# Altium footprint library PurchasedModules.PcbLib: 4 footprints
Each footprint in its own frame and in the unit in brackets; x right, y up, seen from the top. Pads: shape width x height; smd on the part's side, far side on the other; paste and mask are expansions set on the pad; w line width, h text height; cw(c..) or ccw(c..) is an arc to the next point about the centre after c.
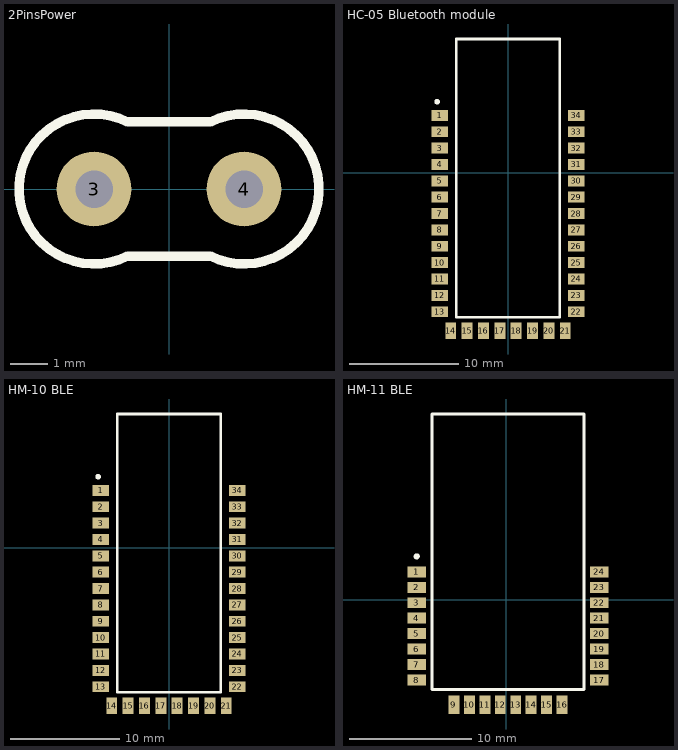
[diagram p0: the footprints below, top view; thin cyan lines are the x and y axes]

## 2PinsPower [mm] "AC-DC 220V-5V converter 0.6A"
pads (2):
  round 2 hole 1: 3(-2,0) 4(2,0)
Top Overlay:
  lines w0.254: -1.106,-1.789 cw(c-2,0) -1.106,1.789 1.106,1.789 cw(c2,0) 1.106,-1.789 -1.106,-1.789

## HC-05 Bluetooth module [mm] "HC-05 chinese module"
height 2
pads (34):
  rect 1.5x1 smd: 1(-6.25,5.25) 2(-6.25,3.75) 3(-6.25,2.25) 4(-6.25,0.75) 5(-6.25,-0.75) 6(-6.25,-2.25) 7(-6.25,-3.75) 8(-6.25,-5.25) 9(-6.25,-6.75) 10(-6.25,-8.25) 11(-6.25,-9.75) 12(-6.25,-11.25) 13(-6.25,-12.75) 22(6.25,-12.75) 23(6.25,-11.25) 24(6.25,-9.75) 25(6.25,-8.25) 26(6.25,-6.75) 27(6.25,-5.25) 28(6.25,-3.75) 29(6.25,-2.25) 30(6.25,-0.75) 31(6.25,0.75) 32(6.25,2.25) 33(6.25,3.75) 34(6.25,5.25)
  rect 1x1.5 smd: 14(-5.25,-14.5) 15(-3.75,-14.5) 16(-2.25,-14.5) 17(-0.75,-14.5) 18(0.75,-14.5) 19(2.25,-14.5) 20(3.75,-14.5) 21(5.25,-14.5)
Top Overlay:
  circle w0.254: c-6.5,6.5 r0.125
  lines w0.254: -4.75,-13.25 4.75,-13.25 4.75,12.25 -4.75,12.25 -4.75,-13.25

## HM-10 BLE [mm] "HM-10 BLE module"
height 2
pads (34):
  rect 1.5x1 smd: 1(-6.25,5.25) 2(-6.25,3.75) 3(-6.25,2.25) 4(-6.25,0.75) 5(-6.25,-0.75) 6(-6.25,-2.25) 7(-6.25,-3.75) 8(-6.25,-5.25) 9(-6.25,-6.75) 10(-6.25,-8.25) 11(-6.25,-9.75) 12(-6.25,-11.25) 13(-6.25,-12.75) 22(6.25,-12.75) 23(6.25,-11.25) 24(6.25,-9.75) 25(6.25,-8.25) 26(6.25,-6.75) 27(6.25,-5.25) 28(6.25,-3.75) 29(6.25,-2.25) 30(6.25,-0.75) 31(6.25,0.75) 32(6.25,2.25) 33(6.25,3.75) 34(6.25,5.25)
  rect 1x1.5 smd: 14(-5.25,-14.5) 15(-3.75,-14.5) 16(-2.25,-14.5) 17(-0.75,-14.5) 18(0.75,-14.5) 19(2.25,-14.5) 20(3.75,-14.5) 21(5.25,-14.5)
Top Overlay:
  circle w0.254: c-6.5,6.5 r0.125
  lines w0.254: -4.75,-13.25 4.75,-13.25 4.75,12.25 -4.75,12.25 -4.75,-13.25

## HM-11 BLE [mm] "HM-11 BLE module"
height 2
pads (24):
  rect 1.5x0.9 smd: 1(-7.366,2.286) 2(-7.366,1.016) 3(-7.366,-0.254) 4(-7.366,-1.524) 5(-7.366,-2.794) 6(-7.366,-4.064) 7(-7.366,-5.334) 8(-7.366,-6.604) 17(7.62,-6.604) 18(7.62,-5.334) 19(7.62,-4.064) 20(7.62,-2.794) 21(7.62,-1.524) 22(7.62,-0.254) 23(7.62,1.016) 24(7.62,2.286)
  rect 0.9x1.5 smd: 9(-4.318,-8.636) 10(-3.048,-8.636) 11(-1.778,-8.636) 12(-0.508,-8.636) 13(0.762,-8.636) 14(2.032,-8.636) 15(3.302,-8.636) 16(4.572,-8.636)
Top Overlay:
  circle w0.254: c-7.366,3.556 r0.125
  lines w0.254: -6.096,-7.366 6.35,-7.366 6.35,15.24 -6.096,15.24 -6.096,-7.366